# EAGLE library part CD4027BCN (library 40XX)
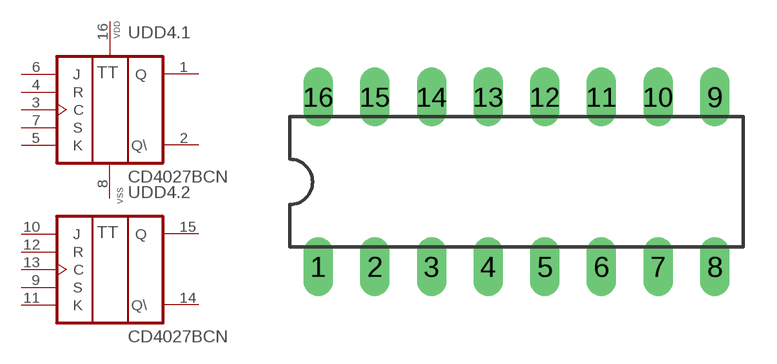
[diagram p84: symbol with the pads of CD4027BCN; footprint CD4027BCN]

Designator prefix -; gates DD4.1=CD4027BCN DD4.2=CD4027BCN .=VDD ,=VSS

## CD4027BCN  [CD4027BCN]
1  DD4.1:Q  out
2  DD4.1:Q\  out
3  DD4.1:C  in
4  DD4.1:R  in
5  DD4.1:K  in
6  DD4.1:J  in
7  DD4.1:S  in
8  ,:VSS  pwr
9  DD4.2:S  in
10  DD4.2:J  in
11  DD4.2:K  in
12  DD4.2:R  in
13  DD4.2:C  in
14  DD4.2:Q\  out
15  DD4.2:Q  out
16  .:VDD  pwr

## Footprint CD4027BCN (pad centres in mm)
drill 0.813 long: 1 -8.89,-3.81; 2 -6.35,-3.81; 3 -3.81,-3.81; 4 -1.27,-3.81; 5 1.27,-3.81; 6 3.81,-3.81; 7 6.35,-3.81; 8 8.89,-3.81; 9 8.89,3.81; 10 6.35,3.81; 11 3.81,3.81; 12 1.27,3.81; 13 -1.27,3.81; 14 -3.81,3.81; 15 -6.35,3.81; 16 -8.89,3.81